# Altium footprint library Blueberry_sound.PcbLib: 53 footprints (part 2 of 4)
Each footprint in its own frame and in the unit in brackets; x right, y up, seen from the top. Pads: shape width x height; smd on the part's side, far side on the other; paste and mask are expansions set on the pad; w line width, h text height; cw(c..) or ccw(c..) is an arc to the next point about the centre after c.
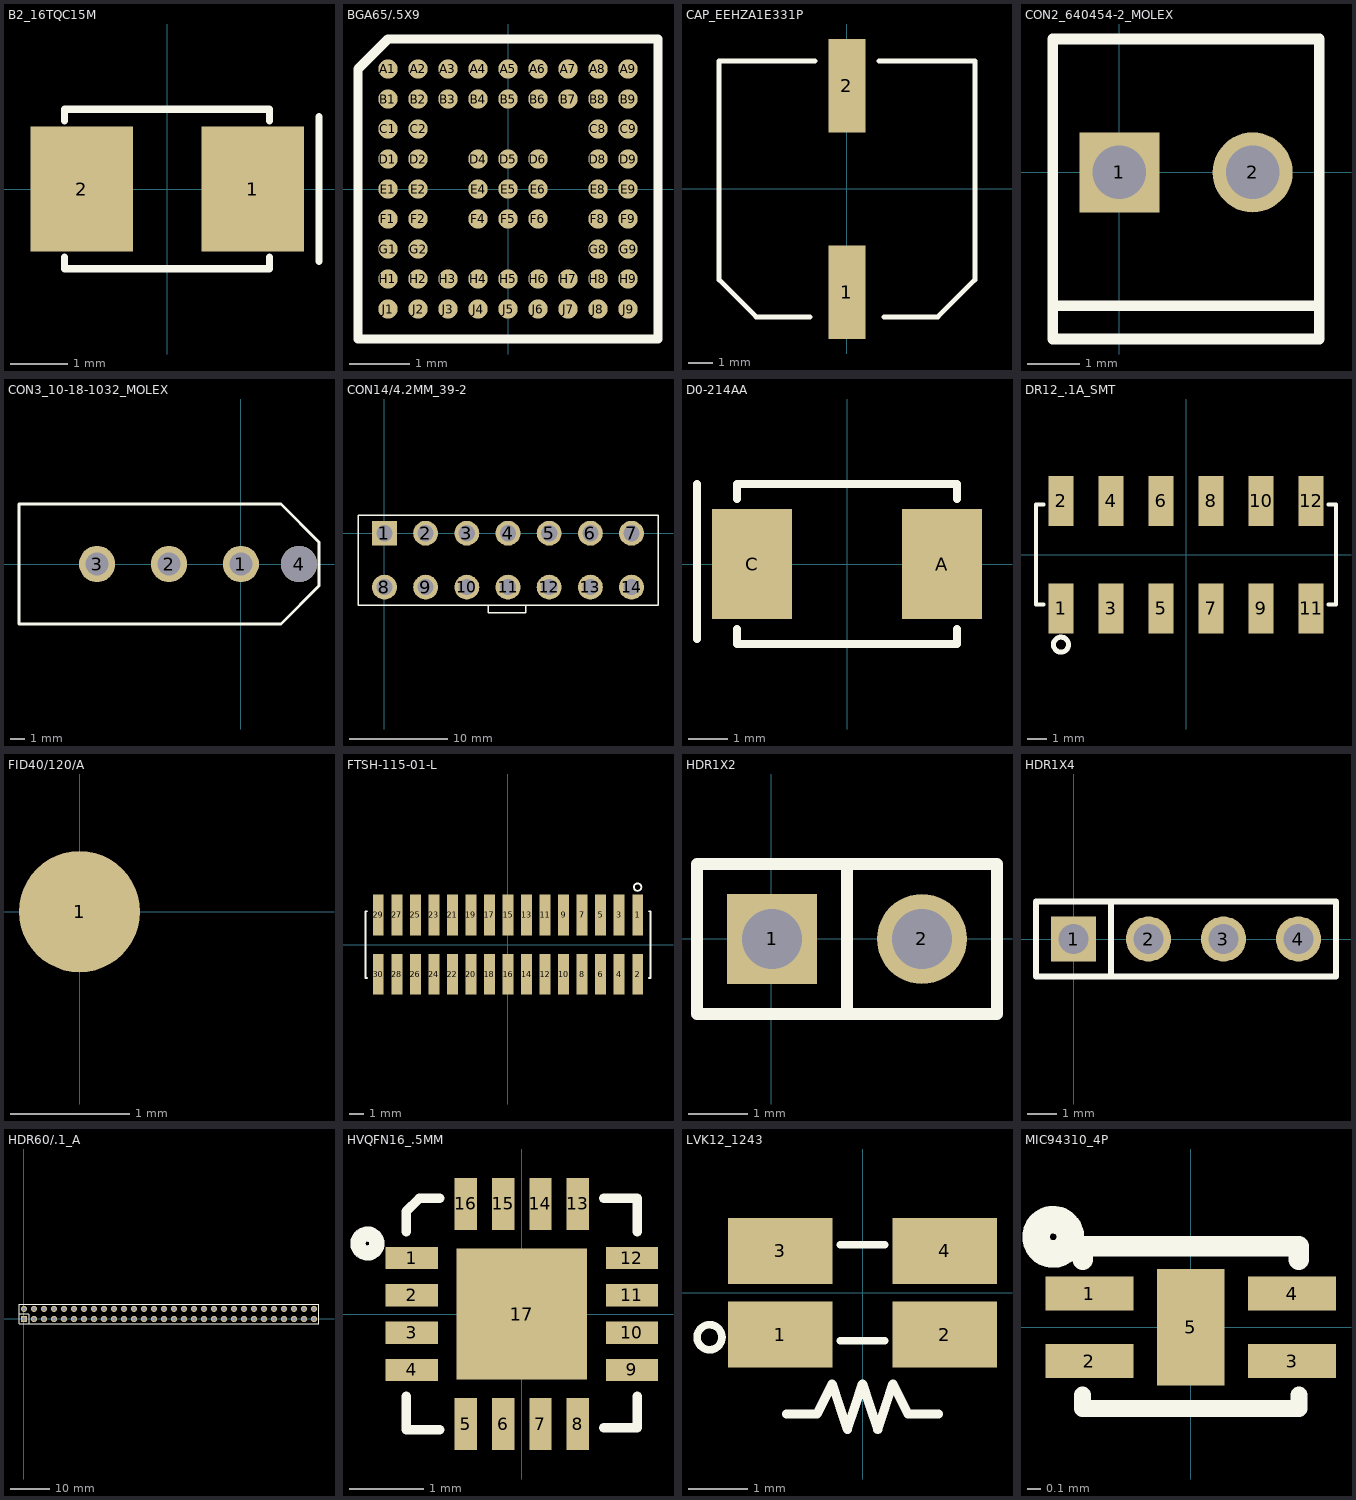
[diagram p1: the footprints below, top view; thin cyan lines are the x and y axes]

## B2_16TQC15M [mm]
pads (2):
  rect 1.8x2.2 smd: 1(1.5,0) 2(-1.5,0)
Top Overlay:
  lines w0.127: -1.8,-1.2 -1.8,-1.4 1.8,-1.4 1.8,-1.2 ; -1.8,1.2 -1.8,1.4 1.8,1.4 1.8,1.2 ; 2.667,-1.27 2.667,1.27

## BGA65/.5X9 [mm]
pads (65):
  round 0.32 smd: A1(-2,2) A2(-1.5,2) A3(-1,2) A4(-0.5,2) A5(0,2) A6(0.5,2) A7(1,2) A8(1.5,2) A9(2,2) B1(-2,1.5) B2(-1.5,1.5) B3(-1,1.5) B4(-0.5,1.5) B5(0,1.5) B6(0.5,1.5) B7(1,1.5) B8(1.5,1.5) B9(2,1.5) C1(-2,1) C2(-1.5,1) C8(1.5,1) C9(2,1) D1(-2,0.5) D2(-1.5,0.5) D4(-0.5,0.5) D5(0,0.5) D6(0.5,0.5) D8(1.5,0.5) D9(2,0.5) E1(-2,0) E2(-1.5,0) E4(-0.5,0) E5(0,0) E6(0.5,0) E8(1.5,0) E9(2,0) F1(-2,-0.5) F2(-1.5,-0.5) F4(-0.5,-0.5) F5(0,-0.5) F6(0.5,-0.5) F8(1.5,-0.5) F9(2,-0.5) G1(-2,-1) G2(-1.5,-1) G8(1.5,-1) G9(2,-1) H1(-2,-1.5) H2(-1.5,-1.5) H3(-1,-1.5) H4(-0.5,-1.5) H5(0,-1.5) H6(0.5,-1.5) H7(1,-1.5) H8(1.5,-1.5) H9(2,-1.5) J1(-2,-2) J2(-1.5,-2) J3(-1,-2) J4(-0.5,-2) J5(0,-2) J6(0.5,-2) J7(1,-2) J8(1.5,-2) J9(2,-2)
Top Overlay:
  lines w0.152: -2.5,-2.5 2.5,-2.5 2.5,2.5 -2,2.5 -2.5,2 -2.5,-2.5

## CAP_EEHZA1E331P [mm]
pads (2):
  rect 1.524x3.81 smd: 1(0,-4.2) 2(0,4.2)
Top Overlay:
  lines w0.203: -1.5,-5.2 -3.7,-5.2 -5.2,-3.7 -5.2,5.2 -1.3,5.2 ; 1.3,5.2 5.2,5.2 ; 1.5,-5.2 3.7,-5.2 ; 3.7,-5.2 5.2,-3.7 ; 3.7,-5.2 5.2,-3.7 ; 5.2,-3.7 5.2,5.2 ; 5.2,-3.7 5.2,5.2

## CON2_640454-2_MOLEX [mil]
pads (2):
  rect 60x60 hole 40: 1(0,0)
  round 60 hole 40: 2(100,0)
Top Overlay:
  lines w8: -50,-100 150,-100 ; -50,-125 -50,100 150,100 150,-125 -50,-125

## CON3_10-18-1032_MOLEX [mil]
pads (4):
  round 100 hole 63: 1(0,0) 2(-198,0) 3(-396,0)
  round 100 hole 100 unplated: 4(160,0)
Top Overlay:
  lines w8: -611,-165 110,-165 215,-60 215,60 110,165 -611,165 -611,-165

## CON14/4.2MM_39-2 [mm]
pads (14):
  rect 2.54x2.54 hole 1.651: 1(0,0)
  round 2.54 hole 1.651: 2(4.2,0) 3(8.4,0) 4(12.6,0) 5(16.8,0) 6(21,0) 7(25.2,0) 8(0,-5.5) 9(4.2,-5.5) 10(8.4,-5.5) 11(12.6,-5.5) 12(16.8,-5.5) 13(21,-5.5) 14(25.2,-5.5)
Top Overlay:
  lines w0.152: 10.6,-7.366 10.6,-8.128 14.4,-8.128 14.4,-7.366 ; -2.7,-7.35 -2.7,1.85 27.9,1.85 27.9,-7.35 -2.7,-7.35

## D0-214AA [mil]
pads (2):
  rect 80x110 smd: A(95,0) C(-95,0)
Top Overlay:
  lines w8: -150,-75 -150,80 ; -110,-65 -110,-80 110,-80 110,-65 ; -110,65 -110,80 110,80 110,65

## DR12_.1A_SMT [mil]
pads (12):
  rect 50x100 smd: 1(-250,-107.5) 2(-250,107.5) 3(-150,-107.5) 4(-150,107.5) 5(-50,-107.5) 6(-50,107.5) 7(50,-107.5) 8(50,107.5) 9(150,-107.5) 10(150,107.5) 11(250,-107.5) 12(250,107.5)
Top Overlay:
  circle w10: c-250,-180 r15
  lines w8: -285,-100 -300,-100 -300,100 -285,100 ; 285,-100 300,-100 300,100 285,100

## FID40/120/A [mil]
pads (1):
  round 40 smd: 1(0,0)
Top Overlay:

## FTSH-115-01-L [mil]
pads (30):
  rect 29x110 smd: 1(350,80) 2(350,-80) 3(300,80) 4(300,-80) 5(250,80) 6(250,-80) 7(200,80) 8(200,-80) 9(150,80) 10(150,-80) 11(100,80) 12(100,-80) 13(50,80) 14(50,-80) 15(0,80) 16(0,-80) 17(-50,80) 18(-50,-80) 19(-100,80) 20(-100,-80) 21(-150,80) 22(-150,-80) 23(-200,80) 24(-200,-80) 25(-250,80) 26(-250,-80) 27(-300,80) 28(-300,-80) 29(-350,80) 30(-350,-80)
Top Overlay:
  circle w5: c350,155 r10
  lines w5: -380,-90 -385,-90 -385,90 -380,90 ; 380,-90 385,-90 385,90 380,90

## HDR1X2 [mil]
pads (2):
  rect 60x60 hole 40: 1(0.45,-0.03)
  round 60 hole 40: 2(100.45,-0.03)
Top Overlay:
  lines w8: 50.45,-50.03 50.45,49.97 ; -49.55,-50.03 150.45,-50.03 150.45,49.97 -49.55,49.97 -49.55,-50.03

## HDR1X4 [mil]
pads (4):
  rect 60x60 hole 40: 1(0,0)
  round 60 hole 40: 2(100,0) 3(200,0) 4(300,0)
Top Overlay:
  lines w8: 50,-50 50,50 ; -50,-50 350,-50 350,50 -50,50 -50,-50

## HDR60/.1_A [mil]
pads (60):
  rect 60x60 hole 40: 1(0.34,-0.68)
  round 60 hole 40: 2(0,100) 3(100.34,-0.68) 4(100,100) 5(200.34,-0.68) 6(200,100) 7(300.34,-0.68) 8(300,100) 9(400.34,-0.68) 10(400,100) 11(500.34,-0.68) 12(500,100) 13(600.34,-0.68) 14(600,100) 15(700.34,-0.68) 16(700,100) 17(800.34,-0.68) 18(800,100) 19(900.34,-0.68) 20(900,100) 21(1000.34,-0.68) 22(1000,100) 23(1100.34,-0.68) 24(1100,100) 25(1200.34,-0.68) 26(1200,100) 27(1300.34,-0.68) 28(1300,100) 29(1400.34,-0.68) 30(1400,100) 31(1500.34,-0.68) 32(1500,100) 33(1600.34,-0.68) 34(1600,100) 35(1700.34,-0.68) 36(1700,100) 37(1800.34,-0.68) 38(1800,100) 39(1900.34,-0.68) 40(1900,100) 41(2000.34,-0.68) 42(2000,100) 43(2100.34,-0.68) 44(2100,100) 45(2200.34,-0.68) 46(2200,100) 47(2300.34,-0.68) 48(2300,100) 49(2400.34,-0.68) 50(2400,100) 51(2500.34,-0.68) 52(2500,100) 53(2600.34,-0.68) 54(2600,100) 55(2700.34,-0.68) 56(2700,100) 57(2800.34,-0.68) 58(2800,100) 59(2900.34,-0.68) 60(2900,100)
Top Overlay:
  lines w8: -50,50 50,50 ; 50.34,-50.68 50.34,49.32 ; -49.66,-50.68 -49.66,149.32 2950.34,149.32 2950.34,-50.68 -49.66,-50.68

## HVQFN16_.5MM [mm]
pads (17):
  rect 0.7x0.3 smd: 1(-1.475,0.75) 2(-1.475,0.25) 3(-1.475,-0.25) 4(-1.475,-0.75) 9(1.475,-0.75) 10(1.475,-0.25) 11(1.475,0.25) 12(1.475,0.75)
  rect 0.3x0.7 smd: 5(-0.75,-1.475) 6(-0.25,-1.475) 7(0.25,-1.475) 8(0.75,-1.475) 13(0.75,1.475) 14(0.25,1.475) 15(-0.25,1.475) 16(-0.75,1.475)
  rect 1.75x1.75 smd: 17(0,0)
Top Overlay:
  circle w0.203: c-2.068,0.945 r0.127
  lines w0.127: -1.55,-1.1 -1.55,-1.55 -1.1,-1.55 ; -1.55,1.1 -1.55,1.35 ; -1.55,1.375 -1.375,1.55 -1.1,1.55 ; 1.1,-1.525 1.55,-1.525 1.55,-1.1 ; 1.1,1.55 1.55,1.55 1.55,1.1

## LVK12_1243 [mm]
pads (4):
  rect 1.75x1.1 smd: 1(-1.375,-0.7) 2(1.375,-0.7) 3(-1.375,0.7) 4(1.375,0.7)
Top Overlay:
  circle w0.127: c-2.561,-0.745 r0.209
  lines w0.127: -0.375,-0.8 0.375,-0.8 ; -0.375,0.8 0.375,0.8
  lines w0.152: -1.27,-2.032 -0.762,-2.032 -0.508,-1.524 -0.254,-2.286 0,-1.524 0.254,-2.286 0.508,-1.524 0.762,-2.032 1.27,-2.032

## MIC94310_4P [mm]
pads (5):
  rect 0.65x0.25 smd: 1(-0.75,0.25) 2(-0.75,-0.25) 3(0.75,-0.25) 4(0.75,0.25)
  rect 0.5x0.86 smd: 5(0,0)
Top Overlay:
  circle w0.203: c-1.018,0.67 r0.127
  lines w0.127: -0.8,-0.5 -0.8,-0.6 0.8,-0.6 0.8,-0.5
  lines w0.152: -0.8,0.5 -0.8,0.6 0.8,0.6 0.8,0.5